# EAGLE library part TEENSY-3.5/3.6-BREAKOUT-REV-A2-DIP-64 (library Teensy-Breakout-Eagle-Library)
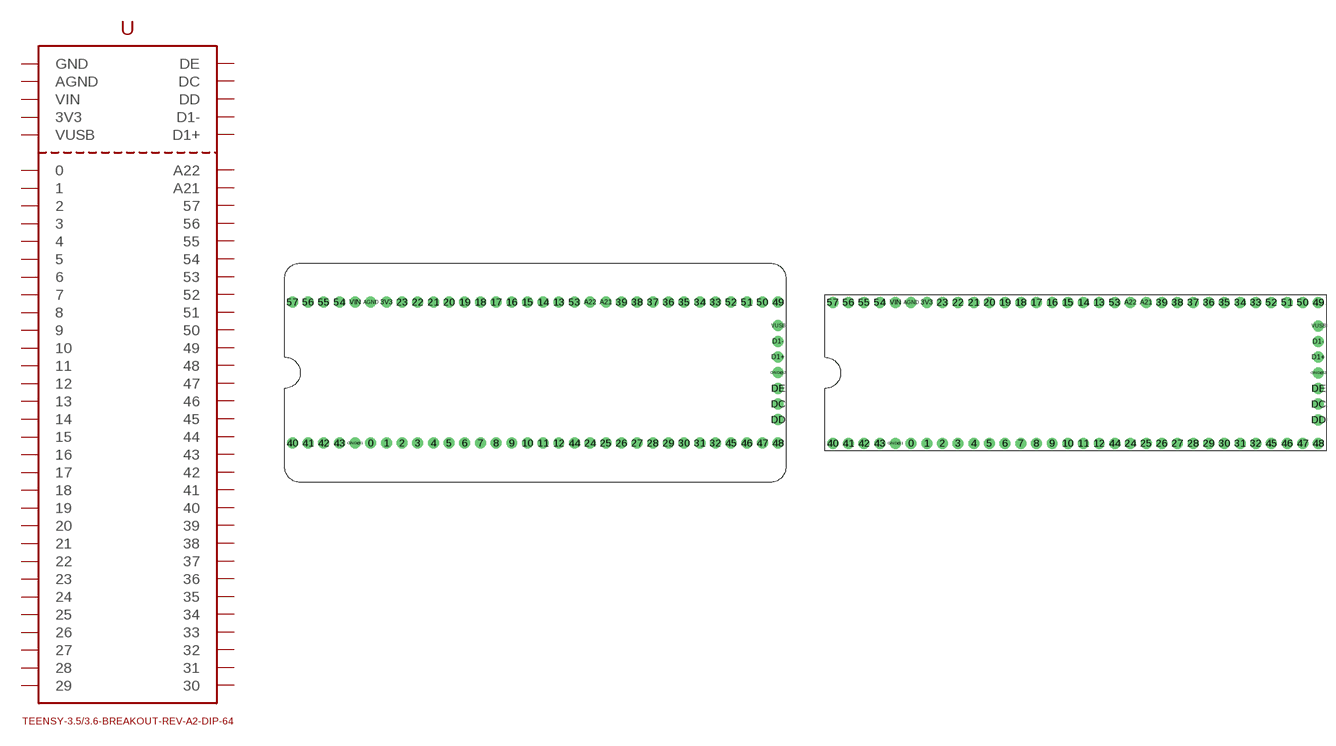
[diagram p6: symbol with the pads of TEENSY-3.5/3.6-BREAKOUT-REV-A2-DIP-64-RAILS; footprints TEENSY-3.5/3.6-BREAKOUT-REV-A2-DIP-64-RAILS, TEENSY-3.5/3.6-BREAKOUT-REV-A2-DIP-64-NO-RAILS]

Designator prefix -

## TEENSY-3.5/3.6-BREAKOUT-REV-A2-DIP-64-RAILS  [TEENSY-3.5/3.6-BREAKOUT-REV-A2-DIP-64-RAILS]
0  0
1  1
2  2
3  3
3V3  3V3
4  4
5  5
6  6
7  7
8  8
9  9
10  10
11  11
12  12
13  13
14  14
15  15
16  16
17  17
18  18
19  19
20  20
21  21
22  22
23  23
24  24
25  25
26  26
27  27
28  28
29  29
30  30
31  31
32  32
33  33
34  34
35  35
36  36
37  37
38  38
39  39
40  40
41  41
42  42
43  43
44  44
45  45
46  46
47  47
48  48
49  49
50  50
51  51
52  52
53  53
54  54
55  55
56  56
57  57
A21  A21
A22  A22
AGND  AGND
D1+  D1+
D1-  D1-
DC  DC
DD  DD
DE  DE
GND@1  GND
GND@2  GND
VIN  VIN
VUSB  VUSB

## TEENSY-3.5/3.6-BREAKOUT-REV-A2-DIP-64-NO-RAILS  [TEENSY-3.5/3.6-BREAKOUT-REV-A2-DIP-64-NO-RAILS]
Pads as for TEENSY-3.5/3.6-BREAKOUT-REV-A2-DIP-64-RAILS

## Footprint TEENSY-3.5/3.6-BREAKOUT-REV-A2-DIP-64-RAILS (pad centres in mm)
drill 1.016 pad 1.778: 0 13.97,6.35; 1 16.51,6.35; 2 19.05,6.35; 3 21.59,6.35; 3V3 16.51,29.21; 4 24.13,6.35; 5 26.67,6.35; 6 29.21,6.35; 7 31.75,6.35; 8 34.29,6.35; 9 36.83,6.35; 10 39.37,6.35; 11 41.91,6.35; 12 44.45,6.35; 13 44.45,29.21; 14 41.91,29.21; 15 39.37,29.21; 16 36.83,29.21; 17 34.29,29.21; 18 31.75,29.21; 19 29.21,29.21; 20 26.67,29.21; 21 24.13,29.21; 22 21.59,29.21; 23 19.05,29.21; 24 49.53,6.35; 25 52.07,6.35; 26 54.61,6.35; 27 57.15,6.35; 28 59.69,6.35; 29 62.23,6.35; 30 64.77,6.35; 31 67.31,6.35; 32 69.85,6.35; 33 69.85,29.21; 34 67.31,29.21; 35 64.77,29.21; 36 62.23,29.21; 37 59.69,29.21; 38 57.15,29.21; 39 54.61,29.21; 40 1.27,6.35; 41 3.81,6.35; 42 6.35,6.35; 43 8.89,6.35; 44 46.99,6.35; 45 72.39,6.35; 46 74.93,6.35; 47 77.47,6.35; 48 80.01,6.35; 49 80.01,29.21; 50 77.47,29.21; 51 74.93,29.21; 52 72.39,29.21; 53 46.99,29.21; 54 8.89,29.21; 55 6.35,29.21; 56 3.81,29.21; 57 1.27,29.21; A21 52.07,29.21; A22 49.53,29.21; AGND 13.97,29.21; D1+ 80.01,20.32; D1- 80.01,22.86; DC 80.01,12.7; DD 80.01,10.16; DE 80.01,15.24; GND@1 11.43,6.35; GND@2 80.01,17.78; VIN 11.43,29.21; VUSB 80.01,25.4

## Footprint TEENSY-3.5/3.6-BREAKOUT-REV-A2-DIP-64-NO-RAILS (pad centres in mm)
drill 1.016 pad 1.778: 0 13.97,1.27; 1 16.51,1.27; 2 19.05,1.27; 3 21.59,1.27; 3V3 16.51,24.13; 4 24.13,1.27; 5 26.67,1.27; 6 29.21,1.27; 7 31.75,1.27; 8 34.29,1.27; 9 36.83,1.27; 10 39.37,1.27; 11 41.91,1.27; 12 44.45,1.27; 13 44.45,24.13; 14 41.91,24.13; 15 39.37,24.13; 16 36.83,24.13; 17 34.29,24.13; 18 31.75,24.13; 19 29.21,24.13; 20 26.67,24.13; 21 24.13,24.13; 22 21.59,24.13; 23 19.05,24.13; 24 49.53,1.27; 25 52.07,1.27; 26 54.61,1.27; 27 57.15,1.27; 28 59.69,1.27; 29 62.23,1.27; 30 64.77,1.27; 31 67.31,1.27; 32 69.85,1.27; 33 69.85,24.13; 34 67.31,24.13; 35 64.77,24.13; 36 62.23,24.13; 37 59.69,24.13; 38 57.15,24.13; 39 54.61,24.13; 40 1.27,1.27; 41 3.81,1.27; 42 6.35,1.27; 43 8.89,1.27; 44 46.99,1.27; 45 72.39,1.27; 46 74.93,1.27; 47 77.47,1.27; 48 80.01,1.27; 49 80.01,24.13; 50 77.47,24.13; 51 74.93,24.13; 52 72.39,24.13; 53 46.99,24.13; 54 8.89,24.13; 55 6.35,24.13; 56 3.81,24.13; 57 1.27,24.13; A21 52.07,24.13; A22 49.53,24.13; AGND 13.97,24.13; D1+ 80.01,15.24; D1- 80.01,17.78; DC 80.01,7.62; DD 80.01,5.08; DE 80.01,10.16; GND@1 11.43,1.27; GND@2 80.01,12.7; VIN 11.43,24.13; VUSB 80.01,20.32